# EAGLE library part STM32L151ZET6 (library MCUs)
Ultra-low-power 32-bit ARM® Cortex®-M3 STM32L1 Microcontroller IC Parameters 32-Bit 32MHz 512KB (512K x 8) FLASH 144-LQFP (20x20) A/D 40x12b D/A 2x12b Supporting Materials STM32L151xE STM32L152xE Datasheet <https://www.st.com/content/ccc/resource/technical/document/datasheet/group1/a7/13/6a/ce/1f/f3/40/c1/DM00098321/files/DM00098321.pdf/jcr:content/translations/en.DM00098321.pdf> Cortex®-M3 Programming manual <https://www.st.com/content/ccc/resource/technical/document/programming_manual/5b/ca/8d/83/56/7f/40/08/CD00228163.pdf/files/CD00228163.pdf/jcr:content/translations/en.CD00228163.pdf>
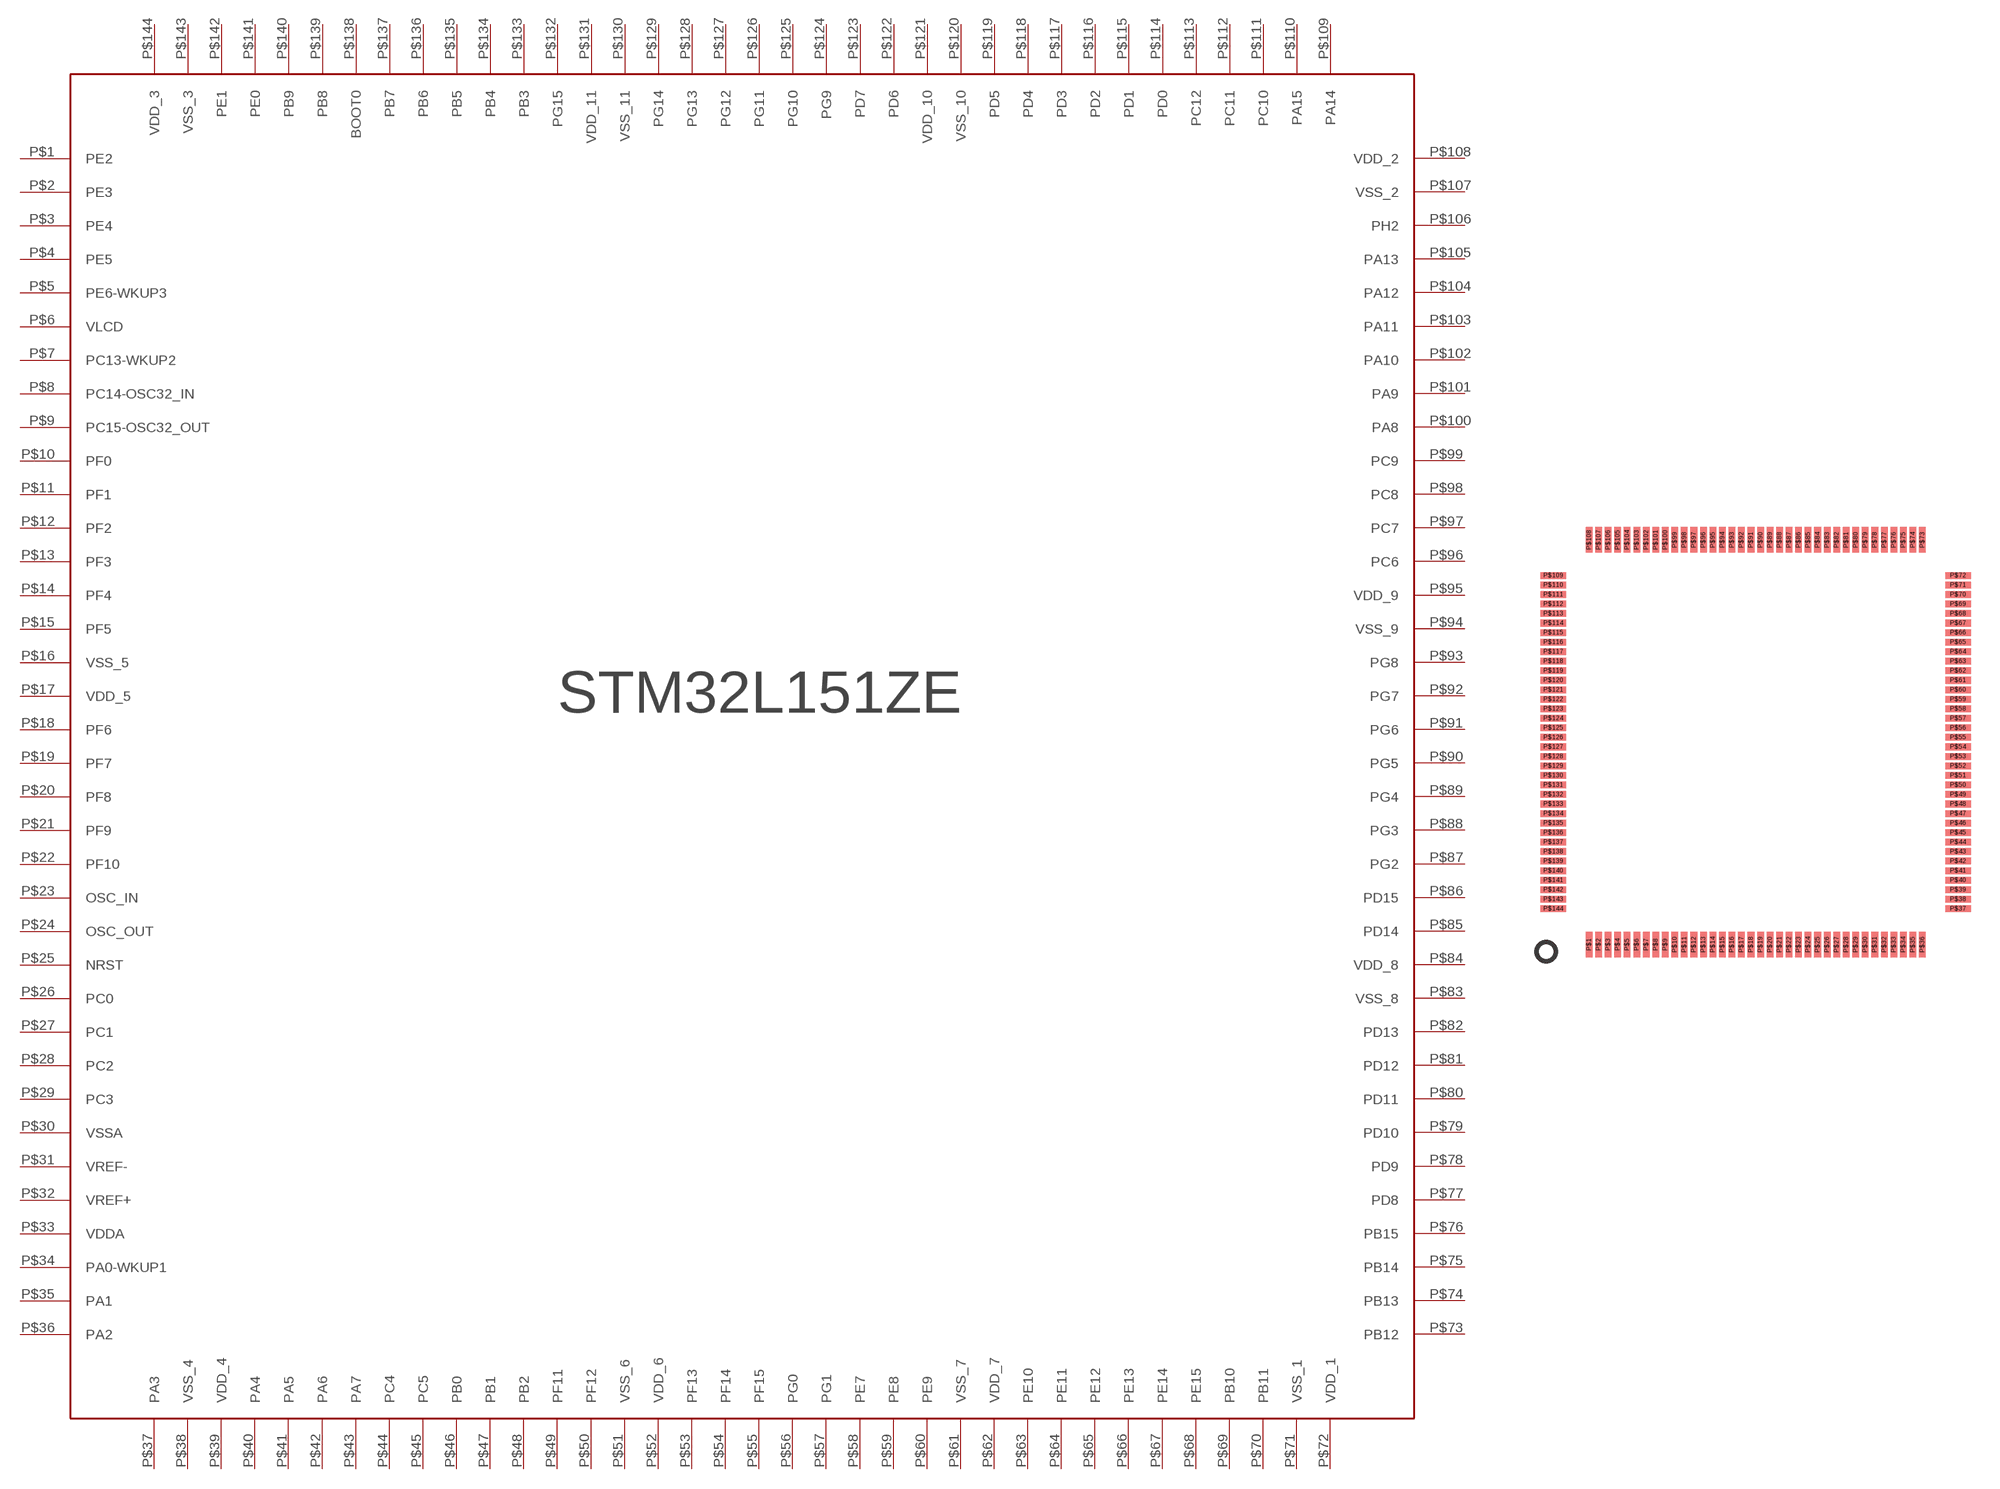
[diagram p0: symbol with the pads of LQFP144; footprint LQFP144]

Designator prefix U

## STM32L151ZET6  [LQFP144]
P$1  PE2
P$2  PE3
P$3  PE4
P$4  PE5
P$5  PE6-WKUP3
P$6  VLCD
P$7  PC13-WKUP2
P$8  PC14-OSC32_IN
P$9  PC15-OSC32_OUT
P$10  PF0
P$11  PF1
P$12  PF2
P$13  PF3
P$14  PF4
P$15  PF5
P$16  VSS_5
P$17  VDD_5
P$18  PF6
P$19  PF7
P$20  PF8
P$21  PF9
P$22  PF10
P$23  OSC_IN
P$24  OSC_OUT
P$25  NRST
P$26  PC0
P$27  PC1
P$28  PC2
P$29  PC3
P$30  VSSA
P$31  VREF-
P$32  VREF+
P$33  VDDA
P$34  PA0-WKUP1
P$35  PA1
P$36  PA2
P$37  PA3
P$38  VSS_4
P$39  VDD_4
P$40  PA4
P$41  PA5
P$42  PA6
P$43  PA7
P$44  PC4
P$45  PC5
P$46  PB0
P$47  PB1
P$48  PB2
P$49  PF11
P$50  PF12
P$51  VSS_6
P$52  VDD_6
P$53  PF13
P$54  PF14
P$55  PF15
P$56  PG0
P$57  PG1
P$58  PE7
P$59  PE8
P$60  PE9
P$61  VSS_7
P$62  VDD_7
P$63  PE10
P$64  PE11
P$65  PE12
P$66  PE13
P$67  PE14
P$68  PE15
P$69  PB10
P$70  PB11
P$71  VSS_1
P$72  VDD_1
P$73  PB12
P$74  PB13
P$75  PB14
P$76  PB15
P$77  PD8
P$78  PD9
P$79  PD10
P$80  PD11
P$81  PD12
P$82  PD13
P$83  VSS_8
P$84  VDD_8
P$85  PD14
P$86  PD15
P$87  PG2
P$88  PG3
P$89  PG4
P$90  PG5
P$91  PG6
P$92  PG7
P$93  PG8
P$94  VSS_9
P$95  VDD_9
P$96  PC6
P$97  PC7
P$98  PC8
P$99  PC9
P$100  PA8
P$101  PA9
P$102  PA10
P$103  PA11
P$104  PA12
P$105  PA13
P$106  PH2
P$107  VSS_2
P$108  VDD_2
P$109  PA14
P$110  PA15
P$111  PC10
P$112  PC11
P$113  PC12
P$114  PD0
P$115  PD1
P$116  PD2
P$117  PD3
P$118  PD4
P$119  PD5
P$120  VSS_10
P$121  VDD_10
P$122  PD6
P$123  PD7
P$124  PG9
P$125  PG10
P$126  PG11
P$127  PG12
P$128  PG13
P$129  PG14
P$130  VSS_11
P$131  VDD_11
P$132  PG15
P$133  PB3
P$134  PB4
P$135  PB5
P$136  PB6
P$137  PB7
P$138  BOOT0
P$139  PB8
P$140  PB9
P$141  PE0
P$142  PE1
P$143  VSS_3
P$144  VDD_3

## Footprint LQFP144 (pad centres in mm)
smd 0.35 x 1.35: P$1 -8.75,-10.625; P$2 -8.25,-10.625; P$3 -7.75,-10.625; P$4 -7.25,-10.625; P$5 -6.75,-10.625; P$6 -6.25,-10.625; P$7 -5.75,-10.625; P$8 -5.25,-10.625; P$9 -4.75,-10.625; P$10 -4.25,-10.625; P$11 -3.75,-10.625; P$12 -3.25,-10.625; P$13 -2.75,-10.625; P$14 -2.25,-10.625; P$15 -1.75,-10.625; P$16 -1.25,-10.625; P$17 -0.75,-10.625; P$18 -0.25,-10.625; P$19 0.25,-10.625; P$20 0.75,-10.625; P$21 1.25,-10.625; P$22 1.75,-10.625; P$23 2.25,-10.625; P$24 2.75,-10.625; P$25 3.25,-10.625; P$26 3.75,-10.625; P$27 4.25,-10.625; P$28 4.75,-10.625; P$29 5.25,-10.625; P$30 5.75,-10.625; P$31 6.25,-10.625; P$32 6.75,-10.625; P$33 7.25,-10.625; P$34 7.75,-10.625; P$35 8.25,-10.625; P$36 8.75,-10.625; P$73 8.75,10.625; P$74 8.25,10.625; P$75 7.75,10.625; P$76 7.25,10.625; P$77 6.75,10.625; P$78 6.25,10.625; P$79 5.75,10.625; P$80 5.25,10.625; P$81 4.75,10.625; P$82 4.25,10.625; P$83 3.75,10.625; P$84 3.25,10.625; P$85 2.75,10.625; P$86 2.25,10.625; P$87 1.75,10.625; P$88 1.25,10.625; P$89 0.75,10.625; P$90 0.25,10.625; P$91 -0.25,10.625; P$92 -0.75,10.625; P$93 -1.25,10.625; P$94 -1.75,10.625; P$95 -2.25,10.625; P$96 -2.75,10.625; P$97 -3.25,10.625; P$98 -3.75,10.625; P$99 -4.25,10.625; P$100 -4.75,10.625; P$101 -5.25,10.625; P$102 -5.75,10.625; P$103 -6.25,10.625; P$104 -6.75,10.625; P$105 -7.25,10.625; P$106 -7.75,10.625; P$107 -8.25,10.625; P$108 -8.75,10.625
smd 1.35 x 0.35: P$37 10.625,-8.75; P$38 10.625,-8.25; P$39 10.625,-7.75; P$40 10.625,-7.25; P$41 10.625,-6.75; P$42 10.625,-6.25; P$43 10.625,-5.75; P$44 10.625,-5.25; P$45 10.625,-4.75; P$46 10.625,-4.25; P$47 10.625,-3.75; P$48 10.625,-3.25; P$49 10.625,-2.75; P$50 10.625,-2.25; P$51 10.625,-1.75; P$52 10.625,-1.25; P$53 10.625,-0.75; P$54 10.625,-0.25; P$55 10.625,0.25; P$56 10.625,0.75; P$57 10.625,1.25; P$58 10.625,1.75; P$59 10.625,2.25; P$60 10.625,2.75; P$61 10.625,3.25; P$62 10.625,3.75; P$63 10.625,4.25; P$64 10.625,4.75; P$65 10.625,5.25; P$66 10.625,5.75; P$67 10.625,6.25; P$68 10.625,6.75; P$69 10.625,7.25; P$70 10.625,7.75; P$71 10.625,8.25; P$72 10.625,8.75; P$109 -10.625,8.75; P$110 -10.625,8.25; P$111 -10.625,7.75; P$112 -10.625,7.25; P$113 -10.625,6.75; P$114 -10.625,6.25; P$115 -10.625,5.75; P$116 -10.625,5.25; P$117 -10.625,4.75; P$118 -10.625,4.25; P$119 -10.625,3.75; P$120 -10.625,3.25; P$121 -10.625,2.75; P$122 -10.625,2.25; P$123 -10.625,1.75; P$124 -10.625,1.25; P$125 -10.625,0.75; P$126 -10.625,0.25; P$127 -10.625,-0.25; P$128 -10.625,-0.75; P$129 -10.625,-1.25; P$130 -10.625,-1.75; P$131 -10.625,-2.25; P$132 -10.625,-2.75; P$133 -10.625,-3.25; P$134 -10.625,-3.75; P$135 -10.625,-4.25; P$136 -10.625,-4.75; P$137 -10.625,-5.25; P$138 -10.625,-5.75; P$139 -10.625,-6.25; P$140 -10.625,-6.75; P$141 -10.625,-7.25; P$142 -10.625,-7.75; P$143 -10.625,-8.25; P$144 -10.625,-8.75